# Altium schematic symbol library SCH - OPAMP - THS4502IDGNR.Schlib: 1 symbol
Pins are listed as number, name and electrical type; pins without a type are passive.

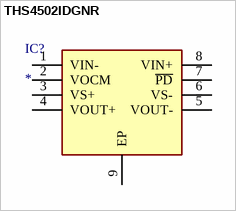
[diagram p0: symbol THS4502IDGNR]

## THS4502IDGNR
designator IC?
Integrated Circuit
pins: 1 VIN-, 2 VOCM, 3 VS+, 4 VOUT+, 5 VOUT-, 6 VS-, 7 ~{PD}, 8 VIN+, 9 EP